# Altium schematic symbol library SMBJ24CA_TR13.SchLib: 1 symbol
Pins are listed as number, name and electrical type; pins without a type are passive.

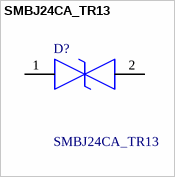
[diagram p0: symbol SMBJ24CA_TR13]

## SMBJ24CA_TR13
designator D?
38.9V Clamp 15.5A Ipp Tvs Diode Surface Mount DO-214AA (SMB); Manufacturer_Name: YAGEO; Manufacturer_Part_Number: SMBJ24CA/TR13; Geometry.Height: 2.65mm; Mouser Part Number: 603-SMBJ24CA/TR13; Mouser Price/Stock: https://www.mouser.co.uk/ProductDetail/YAGEO/SMBJ24CA-TR13?qs=PzGy0jfpSMvGAe65GS0rOg%3D%3D; Datasheet Link: https://4donline.ihs.com/images/VipMasterIC/IC/MCBU/MCBUS00041/MCBUS00041-1.pdf?hkey=61A2E4C270F0397D049F8F05BD4F1054
footprint DIONM5436X265N
pins: 1, 2